# Altium footprint library 2020-01-08_21-27-24.PcbLib: 3 footprints
Each footprint in its own frame and in the unit in brackets; x right, y up, seen from the top. Pads: shape width x height; smd on the part's side, far side on the other; paste and mask are expansions set on the pad; w line width, h text height; cw(c..) or ccw(c..) is an arc to the next point about the centre after c.
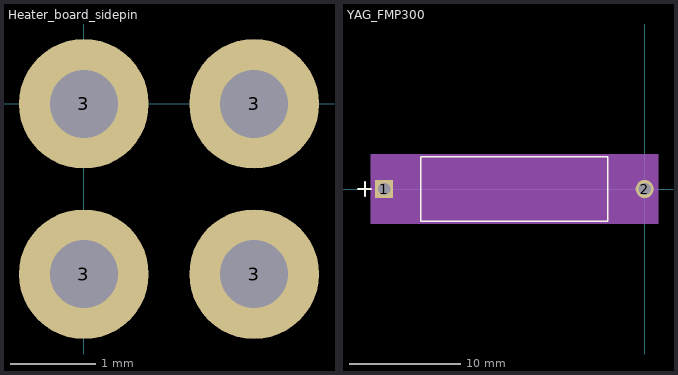
[diagram p0: the footprints below, top view; thin cyan lines are the x and y axes]

## Heater_board_sidepin [mil]
pads (4):
  round 60 hole 31.5: 3(0,-78.74) 3(0,0) 3(78.74,-78.74) 3(78.74,0)
3D body "878330431.stp": height 250, standoff -83.07, extent -91.81,-90.28 170,250.28

## PCBComponent_1 [mil]

## YAG_FMP300 [mil]
pads (2):
  rect 64x64 hole 44: 1(-920,0)
  round 64 hole 44: 2(0,0)
Top Overlay:
  lines w6: -1012,0 -965.1,0 ; -987,-25 -987,25 ; -790,-113.5 -790,113.5 -130,113.5 -130,-113.5 -790,-113.5
Mechanical 5:
  region: 47,-123.5 -967,-123.5 -967,123.5 47,123.5
Mechanical 13:
  lines w1: -1012,0 -962,0 ; -987,-25 -987,25 ; -920,0 -785,0 ; -135,0 0,0 ; -785,-108.5 -785,108.5 -135,108.5 -135,-108.5 -785,-108.5
Mechanical 15:
  region: -795,-42 -962,-42 -962,42 -795,42 -795,118.5 -125,118.5 -125,42 42,42 42,-42 -125,-42 -125,-118.5 -795,-118.5
  lines w6: -962,-42 -795,-42 -795,-118.5 -125,-118.5 -125,-42 42,-42 42,42 -125,42 -125,118.5 -795,118.5 -795,42 -962,42 -962,-42
3D body: height 10, standoff 0, extent 0,0 10,10